# Altium footprint library Module.PcbLib: 19 footprints (part 2 of 2)
Each footprint in its own frame and in the unit in brackets; x right, y up, seen from the top. Pads: shape width x height; smd on the part's side, far side on the other; paste and mask are expansions set on the pad; w line width, h text height; cw(c..) or ccw(c..) is an arc to the next point about the centre after c.
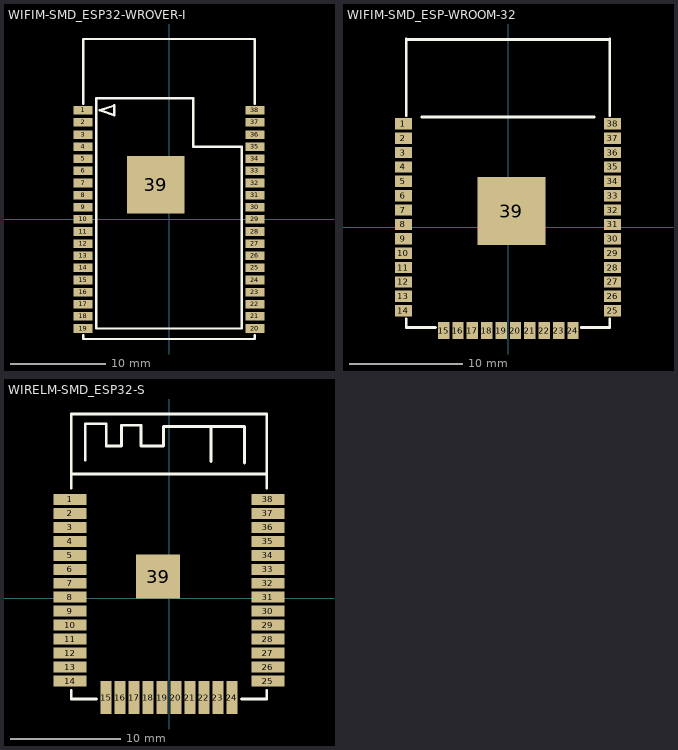
[diagram p1: the footprints below, top view; thin cyan lines are the x and y axes]

## WIFIM-SMD_ESP32-WROVER-I [mm]
pads (39):
  rect 2x0.9 smd: 1(-9,11.43) 2(-9,10.16) 3(-9,8.89) 4(-9,7.62) 5(-9,6.35) 6(-9,5.08) 7(-9,3.81) 8(-9,2.54) 9(-9,1.27) 10(-9,0) 11(-9,-1.27) 12(-9,-2.54) 13(-9,-3.81) 14(-9,-5.08) 15(-9,-6.35) 16(-9,-7.62) 17(-9,-8.89) 18(-9,-10.16) 19(-9,-11.43) 20(9,-11.43) 21(9,-10.16) 22(9,-8.89) 23(9,-7.62) 24(9,-6.35) 25(9,-5.08) 26(9,-3.81) 27(9,-2.54) 28(9,-1.27) 29(9,0) 30(9,1.27) 31(9,2.54) 32(9,3.81) 33(9,5.08) 34(9,6.35) 35(9,7.62) 36(9,8.89) 37(9,10.16) 38(9,11.43)
  rect 6x6 smd: 39(-1.38,3.64)
Top Overlay:
  lines w0.254: -9,-12.111 -9,-12.53 9,-12.53 9,-12.111 ; -9,12.111 -9,18.9 9,18.9 9,12.111 ; -7.62,-11.43 -7.62,12.7 2.54,12.7 2.54,7.62 7.62,7.62 7.62,-11.43 -7.62,-11.43 ; -7.239,11.43 -5.715,10.922 -5.715,11.938 -7.239,11.43

## WIFIM-SMD_ESP-WROOM-32 [mil]
pads (39):
  rect 59.1x39.4 smd: 1(-364,359.5) 2(-364,309.5) 3(-364,259.5) 4(-364,209.5) 5(-364,159.5) 6(-364,109.5) 7(-364,59.5) 8(-364,9.5) 9(-364,-40.5) 10(-364,-90.5) 11(-364,-140.5) 12(-364,-190.5) 13(-364,-240.5) 14(-364,-290.5) 25(364,-290.5) 26(364,-240.5) 27(364,-190.5) 28(364,-140.5) 29(364,-90.5) 30(364,-40.5) 31(364,9.5) 32(364,59.5) 33(364,109.5) 34(364,159.5) 35(364,209.5) 36(364,259.5) 37(364,309.5) 38(364,359.5)
  rect 39.4x59.1 smd: 15(-224,-359.5) 16(-174,-359.5) 17(-124,-359.5) 18(-74,-359.5) 19(-24,-359.5) 20(26,-359.5) 21(76,-359.5) 22(126,-359.5) 23(176,-359.5) 24(226,-359.5)
  rect 236.2x236.2 smd: 39(12,55.5)
Top Overlay:
  lines w10: -354,-319.3 -354,-349.5 -252.8,-349.5 ; -354,388.3 -354,654.5 ; -354,652.17 354,652.17 ; -300,383.5 300,383.5 ; 254.8,-349.5 354,-349.5 354,-319.3 ; 354,388.3 354,654.5

## WIRELM-SMD_ESP32-S [mm]
pads (39):
  rect 3x1 smd: 1(-9,9.005) 2(-9,7.735) 3(-9,6.465) 4(-9,5.195) 5(-9,3.925) 6(-9,2.655) 7(-9,1.385) 8(-9,0.115) 9(-9,-1.155) 10(-9,-2.425) 11(-9,-3.695) 12(-9,-4.965) 13(-9,-6.235) 14(-9,-7.505) 25(9,-7.505) 26(9,-6.235) 27(9,-4.965) 28(9,-3.695) 29(9,-2.425) 30(9,-1.155) 31(9,0.115) 32(9,1.385) 33(9,2.655) 34(9,3.925) 35(9,5.195) 36(9,6.465) 37(9,7.735) 38(9,9.005)
  rect 1x3 smd: 15(-5.715,-9.005) 16(-4.445,-9.005) 17(-3.175,-9.005) 18(-1.905,-9.005) 19(-0.635,-9.005) 20(0.635,-9.005) 21(1.905,-9.005) 22(3.175,-9.005) 23(4.445,-9.005) 24(5.715,-9.005)
  rect 4x4 smd: 39(-1,1.995)
Top Overlay:
  lines w0.254: -8.89,-8.37 -8.89,-9.132 -6.604,-9.132 ; -8.89,10.045 -8.89,16.776 8.89,16.776 8.89,10.045 ; -8.89,11.315 8.89,11.315 ; -7.62,12.584 -7.62,15.886 -5.715,15.886 -5.715,13.854 -4.318,13.854 -4.318,15.759 -2.54,15.759 -2.54,13.854 -0.508,13.854 -0.508,15.632 6.858,15.632 6.858,12.33 ; 3.81,12.458 3.81,15.633 ; 6.604,-9.132 8.89,-9.132 8.89,-8.37